# EAGLE library part M50-3601042 (library Jack-connectors)
Harwin Archen connector, 1.27 mm pitch
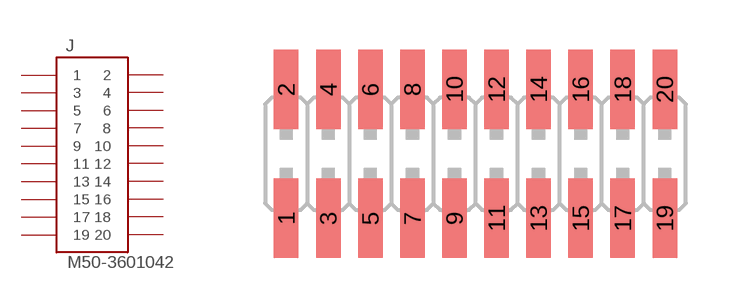
[diagram p14: symbol with the pads of M50-3601042; footprint M50-3601042]

Designator prefix J

## M50-3601042 (DESCRIPTION: Harwin SMT 20 pin header, 1.27 mm pitch; PACK: M50-3601042)  [M50-3601042]
1  1  pas
2  2  pas
3  3  pas
4  4  pas
5  5  pas
6  6  pas
7  7  pas
8  8  pas
9  9  pas
10  10  pas
11  11  pas
12  12  pas
13  13  pas
14  14  pas
15  15  pas
16  16  pas
17  17  pas
18  18  pas
19  19  pas
20  20  pas

## Footprint M50-3601042 (pad centres in mm)
smd 0.74 x 2.4: 1 -5.715,-1.95; 2 -5.715,1.95; 3 -4.445,-1.95; 4 -4.445,1.95; 5 -3.175,-1.95; 6 -3.175,1.95; 7 -1.905,-1.95; 8 -1.905,1.95; 9 -0.635,-1.95; 10 -0.635,1.95; 11 0.635,-1.95; 12 0.635,1.95; 13 1.905,-1.95; 14 1.905,1.95; 15 3.175,-1.95; 16 3.175,1.95; 17 4.445,-1.95; 18 4.445,1.95; 19 5.715,-1.95; 20 5.715,1.95